# Altium integrated library AMP High-Speed MICTOR.IntLib: 109 symbols (part 5 of 5)
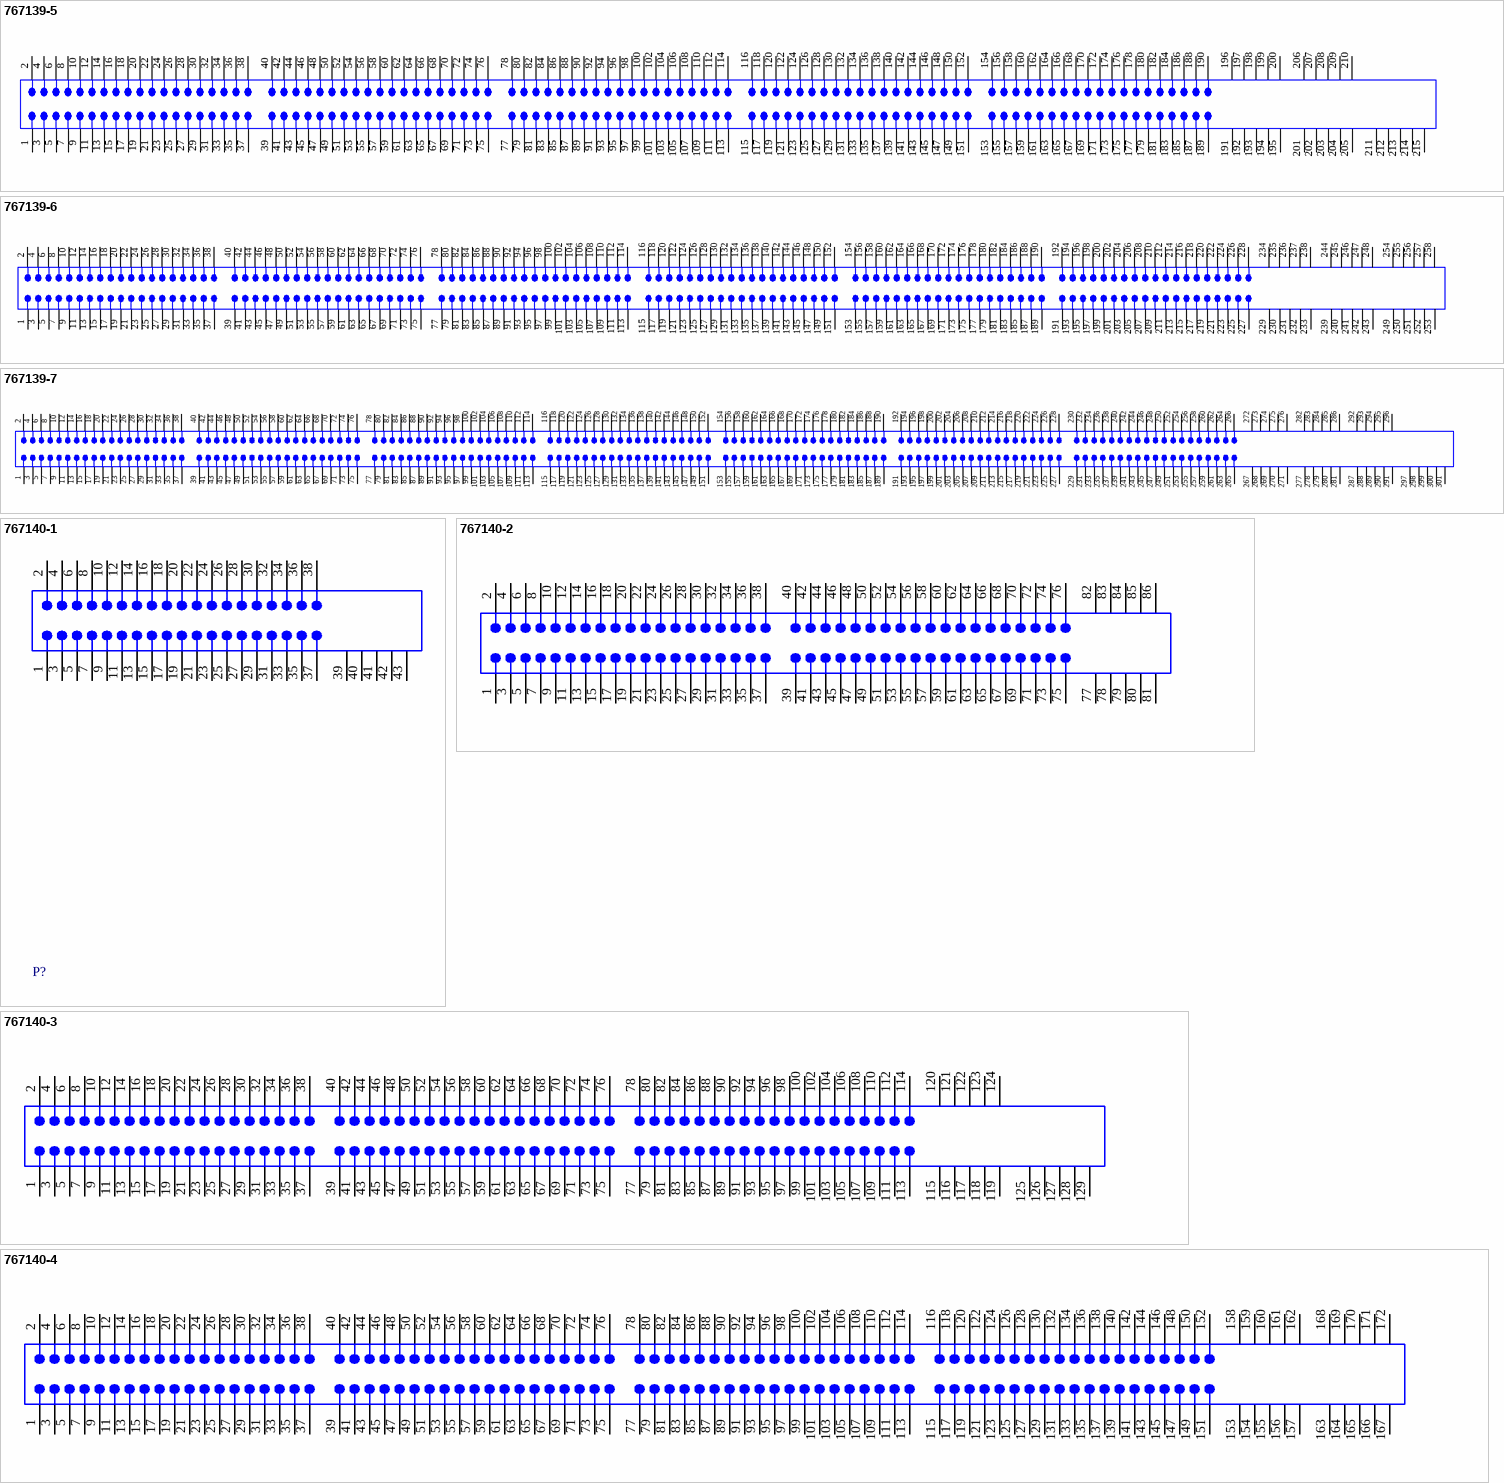
[diagram p19: symbols 767139-5 to 767140-4]

## 767139-6
designator P?
Plug Assembly, .354 [92.92] Vertical, .025 [0.64] CL, Gull Wing Leads, MICTOR; PCB_Layout: Complies with manufacturer's recommendation.; DrillSize: Corresponds to nominal value.; Note: PCB Hold Downs required for connectors of 190 positions and larger (pads 260 & 261). Size & Shape of Hold Downs at customers discretion.; PCB_Layout: Orientation hole size for standard applications, 0.094 Inches (+/-0.002). For slip-fit applications, 0.079 Inches (+/-0.001).; Note: Pins 229-258 are Ground Bus Leads.; Published: 17-Jan-2003; DatasheetDocument: Oct-2002; PackageDocument: Oct-2002; PackageReference: 767139-6; Publisher: Altium Limited; ComponentLink1Description: Manufacturer Link; ComponentLink1URL: http://www.tycoelectronics.com/; ComponentLink2Description: Packaging Specification; ComponentLink2URL: http://ecommas.tycoelectronics.com/commerce/DocumentDelivery/DDEController?Action=showdoc&DocId=Customer+Drawing%7F767139%7FD%7Fpdf%7FEnglish%7FENG_CD_767139_D.pdf
footprint 767139-6 (Connector; High-Speed, Plug; 228 Position; Vertical)
signal-integrity model High-Speed
pins: 1, 2, 3, 4, 5, 6, 7, 8, 9, 10, 11, 12, 13, 14, 15, 16, 17, 18, 19, 20, 21, 22, 23, 24, 25, 26, 27, 28, 29, 30, 31, 32, 33, 34, 35, 36, 37, 38, 39, 40, 41, 42, 43, 44, 45, 46, 47, 48, 49, 50, 51, 52, 53, 54, 55, 56, 57, 58, 59, 60, 61, 62, 63, 64, 65, 66, 67, 68, 69, 70, 71, 72, 73, 74, 75, 76, 77, 78, 79, 80, 81, 82, 83, 84, 85, 86, 87, 88, 89, 90, 91, 92, 93, 94, 95, 96, 97, 98, 99, 100, 101, 102, 103, 104, 105, 106, 107, 108, 109, 110, 111, 112, 113, 114, 115, 116, 117, 118, 119, 120, 121, 122, 123, 124, 125, 126, 127, 128, 129, 130, 131, 132, 133, 134, 135, 136, 137, 138, 139, 140, 141, 142, 143, 144, 145, 146, 147, 148, 149, 150, 151, 152, 153, 154, 155, 156, 157, 158, 159, 160, 161, 162, 163, 164, 165, 166, 167, 168, 169, 170, 171, 172, 173, 174, 175, 176, 177, 178, 179, 180, 181, 182, 183, 184, 185, 186, 187, 188, 189, 190, 191, 192, 193, 194, 195, 196, 197, 198, 199, 200, 201, 202, 203, 204, 205, 206, 207, 208, 209, 210, 211, 212, 213, 214, 215, 216, 217, 218, 219, 220, 221, 222, 223, 224, 225, 226, 227, 228, 229 GND (power), 230 GND (power), 231 GND (power), 232 GND (power), 233 GND (power), 234 GND (power), 235 GND (power), 236 GND (power), 237 GND (power), 238 GND (power), 239 GND (power), 240 GND (power), 241 GND (power), 242 GND (power), 243 GND (power), 244 GND (power), 245 GND (power), 246 GND (power), 247 GND (power), 248 GND (power), 249 GND (power), 250 GND (power), 251 GND (power), 252 GND (power), 253 GND (power), 254 GND (power), 255 GND (power), 256 GND (power), 257 GND (power), 258 GND (power)

## 767139-7
designator P?
Plug Assembly, .354 [92.92] Vertical, .025 [0.64] CL, Gull Wing Leads, MICTOR; PCB_Layout: Complies with manufacturer's recommendation.; DrillSize: Corresponds to nominal value.; Note: PCB Hold Downs required for connectors of 190 positions and larger (pads 303 & 304).; PCB_Layout: Orientation hole size for standard applications, 0.094 Inches (+/-0.002). For slip-fit applications, 0.079 Inches (+/-0.001).; Note: Pins 267-301 are Ground Bus Leads.; Published: 17-Jan-2003; DatasheetDocument: Oct-2002; PackageDocument: Oct-2002; PackageReference: 767139-7; Publisher: Altium Limited; ComponentLink1Description: Manufacturer Link; ComponentLink1URL: http://www.tycoelectronics.com/; ComponentLink2Description: Packaging Specification; ComponentLink2URL: http://ecommas.tycoelectronics.com/commerce/DocumentDelivery/DDEController?Action=showdoc&DocId=Customer+Drawing%7F767139%7FD%7Fpdf%7FEnglish%7FENG_CD_767139_D.pdf
footprint 767139-7 (Connector; High-Speed, Plug; 266 Position; Vertical)
signal-integrity model High-Speed
pins: 1, 2, 3, 4, 5, 6, 7, 8, 9, 10, 11, 12, 13, 14, 15, 16, 17, 18, 19, 20, 21, 22, 23, 24, 25, 26, 27, 28, 29, 30, 31, 32, 33, 34, 35, 36, 37, 38, 39, 40, 41, 42, 43, 44, 45, 46, 47, 48, 49, 50, 51, 52, 53, 54, 55, 56, 57, 58, 59, 60, 61, 62, 63, 64, 65, 66, 67, 68, 69, 70, 71, 72, 73, 74, 75, 76, 77, 78, 79, 80, 81, 82, 83, 84, 85, 86, 87, 88, 89, 90, 91, 92, 93, 94, 95, 96, 97, 98, 99, 100, 101, 102, 103, 104, 105, 106, 107, 108, 109, 110, 111, 112, 113, 114, 115, 116, 117, 118, 119, 120, 121, 122, 123, 124, 125, 126, 127, 128, 129, 130, 131, 132, 133, 134, 135, 136, 137, 138, 139, 140, 141, 142, 143, 144, 145, 146, 147, 148, 149, 150, 151, 152, 153, 154, 155, 156, 157, 158, 159, 160, 161, 162, 163, 164, 165, 166, 167, 168, 169, 170, 171, 172, 173, 174, 175, 176, 177, 178, 179, 180, 181, 182, 183, 184, 185, 186, 187, 188, 189, 190, 191, 192, 193, 194, 195, 196, 197, 198, 199, 200, 201, 202, 203, 204, 205, 206, 207, 208, 209, 210, 211, 212, 213, 214, 215, 216, 217, 218, 219, 220, 221, 222, 223, 224, 225, 226, 227, 228, 229, 230, 231, 232, 233, 234, 235, 236, 237, 238, 239, 240, 241, 242, 243, 244, 245, 246, 247, 248, 249, 250, 251, 252, 253, 254, 255, 256, 257, 258, 259, 260, 261, 262, 263, 264, 265, 266, 267 GND (power), 268 GND (power), 269 GND (power), 270 GND (power), 271 GND (power), 272 GND (power), 273 GND (power), 274 GND (power), 275 GND (power), 276 GND (power), 277 GND (power), 278 GND (power), 279 GND (power), 280 GND (power), 281 GND (power), 282 GND (power), 283 GND (power), 284 GND (power), 285 GND (power), 286 GND (power), 287 GND (power), 288 GND (power), 289 GND (power), 290 GND (power), 291 GND (power), 292 GND (power), 293 GND (power), 294 GND (power), 295 GND (power), 296 GND (power), 297 GND (power), 298 GND (power), 299 GND (power), 300 GND (power), 301 GND (power)

## 767140-1
designator P?
Plug Assembly, .354 [92.92] Vertical, .025 [0.64] CL, Gull Wing Leads, MICTOR; PCB_Layout: Complies with manufacturer's recommendation.; DrillSize: Corresponds to nominal value.; PCB_Layout: Orientation hole size for standard applications, 0.094 Inches (+/-0.002). For slip-fit applications, 0.079 Inches (+/-0.001).; Note: Pins 39-43 are Ground Bus Leads.; ComponentAvailability: Obsolete; Published: 17-Jan-2003; DatasheetDocument: Oct-2002; PackageDocument: Oct-2002; PackageReference: 767140-1; Publisher: Altium Limited; ComponentLink1Description: Manufacturer Link; ComponentLink1URL: http://www.tycoelectronics.com/; ComponentLink2Description: Packaging Specification; ComponentLink2URL: http://ecommas.tycoelectronics.com/commerce/DocumentDelivery/DDEController?Action=showdoc&DocId=Customer+Drawing%7F767140%7FB%7Fpdf%7FEnglish%7FENG_CD_767140_B.pdf
footprint 767140-1 (Connector; High-Speed, Plug; 38 Position; Vertical)
signal-integrity model High-Speed
pins: 1, 2, 3, 4, 5, 6, 7, 8, 9, 10, 11, 12, 13, 14, 15, 16, 17, 18, 19, 20, 21, 22, 23, 24, 25, 26, 27, 28, 29, 30, 31, 32, 33, 34, 35, 36, 37, 38, 39 GND (power), 40 GND (power), 41 GND (power), 42 GND (power), 43 GND (power)

## 767140-2
designator P?
Plug Assembly, .354 [92.92] Vertical, .025 [0.64] CL, Gull Wing Leads, MICTOR; PCB_Layout: Complies with manufacturer's recommendation.; DrillSize: Corresponds to nominal value.; PCB_Layout: Orientation hole size for standard applications, 0.094 Inches (+/-0.002). For slip-fit applications, 0.079 Inches (+/-0.001).; Note: Pins 77-86 are Ground Bus Leads.; ComponentAvailability: Obsolete; Published: 17-Jan-2003; DatasheetDocument: Sep-2002; PackageDocument: Sep-2002; PackageReference: 767140-2; Publisher: Altium Limited; ComponentLink1Description: Manufacturer Link; ComponentLink1URL: http://www.tycoelectronics.com/; ComponentLink2Description: Packaging Specification; ComponentLink2URL: http://ecommas.tycoelectronics.com/commerce/DocumentDelivery/DDEController?Action=showdoc&DocId=Customer+Drawing%7F767140%7FB%7Fpdf%7FEnglish%7FENG_CD_767140_B.pdf
footprint 767140-2 (Connector; High-Speed, Plug; 76 Position; Vertical)
signal-integrity model High-Speed
pins: 1, 2, 3, 4, 5, 6, 7, 8, 9, 10, 11, 12, 13, 14, 15, 16, 17, 18, 19, 20, 21, 22, 23, 24, 25, 26, 27, 28, 29, 30, 31, 32, 33, 34, 35, 36, 37, 38, 39, 40, 41, 42, 43, 44, 45, 46, 47, 48, 49, 50, 51, 52, 53, 54, 55, 56, 57, 58, 59, 60, 61, 62, 63, 64, 65, 66, 67, 68, 69, 70, 71, 72, 73, 74, 75, 76, 77 GND (power), 78 GND (power), 79 GND (power), 80 GND (power), 81 GND (power), 82 GND (power), 83 GND (power), 84 GND (power), 85 GND (power), 86 GND (power)

## 767140-3
designator P?
Plug Assembly, .354 [92.92] Vertical, .025 [0.64] CL, Gull Wing Leads, MICTOR; PCB_Layout: Complies with manufacturer's recommendation.; DrillSize: Corresponds to nominal value.; PCB_Layout: Orientation hole size for standard applications, 0.094 Inches (+/-0.002). For slip-fit applications, 0.079 Inches (+/-0.001).; Note: Pins 115-129 are Ground Bus Leads.; ComponentAvailability: Obsolete; Published: 17-Jan-2003; DatasheetDocument: Oct-2002; PackageDocument: Oct-2002; PackageReference: 767140-3; Publisher: Altium Limited; ComponentLink1Description: Manufacturer Link; ComponentLink1URL: http://www.tycoelectronics.com/; ComponentLink2Description: Packaging Specification; ComponentLink2URL: http://ecommas.tycoelectronics.com/commerce/DocumentDelivery/DDEController?Action=showdoc&DocId=Customer+Drawing%7F767140%7FB%7Fpdf%7FEnglish%7FENG_CD_767140_B.pdf
footprint 767140-3 (Connector; High-Speed, Plug; 114 Position; Vertical)
signal-integrity model High-Speed
pins: 1, 2, 3, 4, 5, 6, 7, 8, 9, 10, 11, 12, 13, 14, 15, 16, 17, 18, 19, 20, 21, 22, 23, 24, 25, 26, 27, 28, 29, 30, 31, 32, 33, 34, 35, 36, 37, 38, 39, 40, 41, 42, 43, 44, 45, 46, 47, 48, 49, 50, 51, 52, 53, 54, 55, 56, 57, 58, 59, 60, 61, 62, 63, 64, 65, 66, 67, 68, 69, 70, 71, 72, 73, 74, 75, 76, 77, 78, 79, 80, 81, 82, 83, 84, 85, 86, 87, 88, 89, 90, 91, 92, 93, 94, 95, 96, 97, 98, 99, 100, 101, 102, 103, 104, 105, 106, 107, 108, 109, 110, 111, 112, 113, 114, 115 GND (power), 116 GND (power), 117 GND (power), 118 GND (power), 119 GND (power), 120 GND (power), 121 GND (power), 122 GND (power), 123 GND (power), 124 GND (power), 125 GND (power), 126 GND (power), 127 GND (power), 128 GND (power), 129 GND (power)

## 767140-4
designator P?
Plug Assembly, .354 [92.92] Vertical, .025 [0.64] CL, Gull Wing Leads, MICTOR; PCB_Layout: Complies with manufacturer's recommendation.; DrillSize: Corresponds to nominal value.; PCB_Layout: Orientation hole size for standard applications, 0.094 Inches (+/-0.002). For slip-fit applications, 0.079 Inches (+/-0.001).; Note: Pins 153-172 are Ground Bus Leads.; ComponentAvailability: Obsolete; Published: 17-Jan-2003; DatasheetDocument: Sep-2002; PackageDocument: Sep-2002; PackageReference: 767140-4; Publisher: Altium Limited; ComponentLink1Description: Manufacturer Link; ComponentLink1URL: http://www.tycoelectronics.com/; ComponentLink2Description: Packaging Specification; ComponentLink2URL: http://ecommas.tycoelectronics.com/commerce/DocumentDelivery/DDEController?Action=showdoc&DocId=Customer+Drawing%7F767140%7FB%7Fpdf%7FEnglish%7FENG_CD_767140_B.pdf
footprint 767140-4 (Connector; High-Speed, Plug; 152 Position; Vertical)
signal-integrity model High-Speed
pins: 1, 2, 3, 4, 5, 6, 7, 8, 9, 10, 11, 12, 13, 14, 15, 16, 17, 18, 19, 20, 21, 22, 23, 24, 25, 26, 27, 28, 29, 30, 31, 32, 33, 34, 35, 36, 37, 38, 39, 40, 41, 42, 43, 44, 45, 46, 47, 48, 49, 50, 51, 52, 53, 54, 55, 56, 57, 58, 59, 60, 61, 62, 63, 64, 65, 66, 67, 68, 69, 70, 71, 72, 73, 74, 75, 76, 77, 78, 79, 80, 81, 82, 83, 84, 85, 86, 87, 88, 89, 90, 91, 92, 93, 94, 95, 96, 97, 98, 99, 100, 101, 102, 103, 104, 105, 106, 107, 108, 109, 110, 111, 112, 113, 114, 115, 116, 117, 118, 119, 120, 121, 122, 123, 124, 125, 126, 127, 128, 129, 130, 131, 132, 133, 134, 135, 136, 137, 138, 139, 140, 141, 142, 143, 144, 145, 146, 147, 148, 149, 150, 151, 152, 153 GND (power), 154 GND (power), 155 GND (power), 156 GND (power), 157 GND (power), 158 GND (power), 159 GND (power), 160 GND (power), 161 GND (power), 162 GND (power), 163 GND (power), 164 GND (power), 165 GND (power), 166 GND (power), 167 GND (power), 168 GND (power), 169 GND (power), 170 GND (power), 171 GND (power), 172 GND (power)

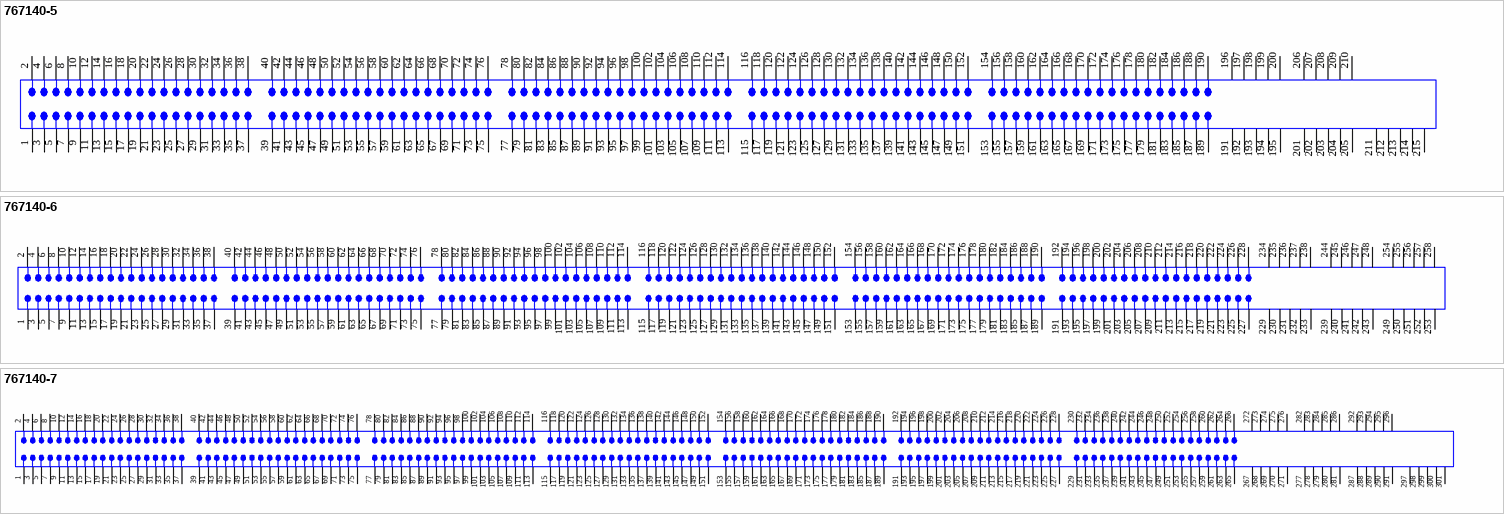
[diagram p15: symbols 767140-5 to 767140-7]

## 767140-5
designator P?
Plug Assembly, .354 [92.92] Vertical, .025 [0.64] CL, Gull Wing Leads, MICTOR; PCB_Layout: Complies with manufacturer's recommendation.; DrillSize: Corresponds to nominal value.; Note: PCB Hold Downs required for connectors of 190 positions and larger (pads 217 & 218).; PCB_Layout: Orientation hole size for standard applications, 0.094 Inches (+/-0.002). For slip-fit applications, 0.079 Inches (+/-0.001).; Note: Pins 191-215 are Ground Bus Leads.; ComponentAvailability: Obsolete; Published: 17-Jan-2003; DatasheetDocument: Oct-2002; PackageDocument: Oct-2002; PackageReference: 767140-5; Publisher: Altium Limited; ComponentLink1Description: Manufacturer Link; ComponentLink1URL: http://www.tycoelectronics.com/; ComponentLink2Description: Packaging Specification; ComponentLink2URL: http://ecommas.tycoelectronics.com/commerce/DocumentDelivery/DDEController?Action=showdoc&DocId=Customer+Drawing%7F767140%7FB%7Fpdf%7FEnglish%7FENG_CD_767140_B.pdf
footprint 767140-5 (Connector; High-Speed, Plug; 190 Position; Vertical)
signal-integrity model High-Speed
pins: 1, 2, 3, 4, 5, 6, 7, 8, 9, 10, 11, 12, 13, 14, 15, 16, 17, 18, 19, 20, 21, 22, 23, 24, 25, 26, 27, 28, 29, 30, 31, 32, 33, 34, 35, 36, 37, 38, 39, 40, 41, 42, 43, 44, 45, 46, 47, 48, 49, 50, 51, 52, 53, 54, 55, 56, 57, 58, 59, 60, 61, 62, 63, 64, 65, 66, 67, 68, 69, 70, 71, 72, 73, 74, 75, 76, 77, 78, 79, 80, 81, 82, 83, 84, 85, 86, 87, 88, 89, 90, 91, 92, 93, 94, 95, 96, 97, 98, 99, 100, 101, 102, 103, 104, 105, 106, 107, 108, 109, 110, 111, 112, 113, 114, 115, 116, 117, 118, 119, 120, 121, 122, 123, 124, 125, 126, 127, 128, 129, 130, 131, 132, 133, 134, 135, 136, 137, 138, 139, 140, 141, 142, 143, 144, 145, 146, 147, 148, 149, 150, 151, 152, 153, 154, 155, 156, 157, 158, 159, 160, 161, 162, 163, 164, 165, 166, 167, 168, 169, 170, 171, 172, 173, 174, 175, 176, 177, 178, 179, 180, 181, 182, 183, 184, 185, 186, 187, 188, 189, 190, 191 GND (power), 192 GND (power), 193 GND (power), 194 GND (power), 195 GND (power), 196 GND (power), 197 GND (power), 198 GND (power), 199 GND (power), 200 GND (power), 201 GND (power), 202 GND (power), 203 GND (power), 204 GND (power), 205 GND (power), 206 GND (power), 207 GND (power), 208 GND (power), 209 GND (power), 210 GND (power), 211 GND (power), 212 GND (power), 213 GND (power), 214 GND (power), 215 GND (power)

## 767140-6
designator P?
Plug Assembly, .354 [92.92] Vertical, .025 [0.64] CL, Gull Wing Leads, MICTOR; PCB_Layout: Complies with manufacturer's recommendation.; DrillSize: Corresponds to nominal value.; Note: PCB Hold Downs required for connectors of 190 positions and larger (pads 260 & 261). Size & Shape of Hold Downs at customers discretion.; PCB_Layout: Orientation hole size for standard applications, 0.094 Inches (+/-0.002). For slip-fit applications, 0.079 Inches (+/-0.001).; Note: Pins 229-258 are Ground Bus Leads.; ComponentAvailability: Obsolete; Published: 17-Jan-2003; DatasheetDocument: Oct-2002; PackageDocument: Oct-2002; PackageReference: 767140-6; Publisher: Altium Limited; ComponentLink1Description: Manufacturer Link; ComponentLink1URL: http://www.tycoelectronics.com/; ComponentLink2Description: Packaging Specification; ComponentLink2URL: http://ecommas.tycoelectronics.com/commerce/DocumentDelivery/DDEController?Action=showdoc&DocId=Customer+Drawing%7F767140%7FB%7Fpdf%7FEnglish%7FENG_CD_767140_B.pdf
footprint 767140-6 (Connector; High-Speed, Plug; 228 Position; Vertical)
signal-integrity model High-Speed
pins: 1, 2, 3, 4, 5, 6, 7, 8, 9, 10, 11, 12, 13, 14, 15, 16, 17, 18, 19, 20, 21, 22, 23, 24, 25, 26, 27, 28, 29, 30, 31, 32, 33, 34, 35, 36, 37, 38, 39, 40, 41, 42, 43, 44, 45, 46, 47, 48, 49, 50, 51, 52, 53, 54, 55, 56, 57, 58, 59, 60, 61, 62, 63, 64, 65, 66, 67, 68, 69, 70, 71, 72, 73, 74, 75, 76, 77, 78, 79, 80, 81, 82, 83, 84, 85, 86, 87, 88, 89, 90, 91, 92, 93, 94, 95, 96, 97, 98, 99, 100, 101, 102, 103, 104, 105, 106, 107, 108, 109, 110, 111, 112, 113, 114, 115, 116, 117, 118, 119, 120, 121, 122, 123, 124, 125, 126, 127, 128, 129, 130, 131, 132, 133, 134, 135, 136, 137, 138, 139, 140, 141, 142, 143, 144, 145, 146, 147, 148, 149, 150, 151, 152, 153, 154, 155, 156, 157, 158, 159, 160, 161, 162, 163, 164, 165, 166, 167, 168, 169, 170, 171, 172, 173, 174, 175, 176, 177, 178, 179, 180, 181, 182, 183, 184, 185, 186, 187, 188, 189, 190, 191, 192, 193, 194, 195, 196, 197, 198, 199, 200, 201, 202, 203, 204, 205, 206, 207, 208, 209, 210, 211, 212, 213, 214, 215, 216, 217, 218, 219, 220, 221, 222, 223, 224, 225, 226, 227, 228, 229 GND (power), 230 GND (power), 231 GND (power), 232 GND (power), 233 GND (power), 234 GND (power), 235 GND (power), 236 GND (power), 237 GND (power), 238 GND (power), 239 GND (power), 240 GND (power), 241 GND (power), 242 GND (power), 243 GND (power), 244 GND (power), 245 GND (power), 246 GND (power), 247 GND (power), 248 GND (power), 249 GND (power), 250 GND (power), 251 GND (power), 252 GND (power), 253 GND (power), 254 GND (power), 255 GND (power), 256 GND (power), 257 GND (power), 258 GND (power)

## 767140-7
designator P?
Plug Assembly, .354 [92.92] Vertical, .025 [0.64] CL, Gull Wing Leads, MICTOR; PCB_Layout: Complies with manufacturer's recommendation.; DrillSize: Corresponds to nominal value.; Note: PCB Hold Downs required for connectors of 190 positions and larger (pads 303 & 304).; PCB_Layout: Orientation hole size for standard applications, 0.094 Inches (+/-0.002). For slip-fit applications, 0.079 Inches (+/-0.001).; Note: Pins 267-301 are Ground Bus Leads.; ComponentAvailability: Obsolete; Published: 17-Jan-2003; DatasheetDocument: Oct-2002; PackageDocument: Oct-2002; PackageReference: 767140-7; Publisher: Altium Limited; ComponentLink1Description: Manufacturer Link; ComponentLink1URL: http://www.tycoelectronics.com/; ComponentLink2Description: Packaging Specification; ComponentLink2URL: http://ecommas.tycoelectronics.com/commerce/DocumentDelivery/DDEController?Action=showdoc&DocId=Customer+Drawing%7F767140%7FB%7Fpdf%7FEnglish%7FENG_CD_767140_B.pdf
footprint 767140-7 (Connector; High-Speed, Plug; 266 Position; Vertical)
signal-integrity model High-Speed
pins: 1, 2, 3, 4, 5, 6, 7, 8, 9, 10, 11, 12, 13, 14, 15, 16, 17, 18, 19, 20, 21, 22, 23, 24, 25, 26, 27, 28, 29, 30, 31, 32, 33, 34, 35, 36, 37, 38, 39, 40, 41, 42, 43, 44, 45, 46, 47, 48, 49, 50, 51, 52, 53, 54, 55, 56, 57, 58, 59, 60, 61, 62, 63, 64, 65, 66, 67, 68, 69, 70, 71, 72, 73, 74, 75, 76, 77, 78, 79, 80, 81, 82, 83, 84, 85, 86, 87, 88, 89, 90, 91, 92, 93, 94, 95, 96, 97, 98, 99, 100, 101, 102, 103, 104, 105, 106, 107, 108, 109, 110, 111, 112, 113, 114, 115, 116, 117, 118, 119, 120, 121, 122, 123, 124, 125, 126, 127, 128, 129, 130, 131, 132, 133, 134, 135, 136, 137, 138, 139, 140, 141, 142, 143, 144, 145, 146, 147, 148, 149, 150, 151, 152, 153, 154, 155, 156, 157, 158, 159, 160, 161, 162, 163, 164, 165, 166, 167, 168, 169, 170, 171, 172, 173, 174, 175, 176, 177, 178, 179, 180, 181, 182, 183, 184, 185, 186, 187, 188, 189, 190, 191, 192, 193, 194, 195, 196, 197, 198, 199, 200, 201, 202, 203, 204, 205, 206, 207, 208, 209, 210, 211, 212, 213, 214, 215, 216, 217, 218, 219, 220, 221, 222, 223, 224, 225, 226, 227, 228, 229, 230, 231, 232, 233, 234, 235, 236, 237, 238, 239, 240, 241, 242, 243, 244, 245, 246, 247, 248, 249, 250, 251, 252, 253, 254, 255, 256, 257, 258, 259, 260, 261, 262, 263, 264, 265, 266, 267 GND (power), 268 GND (power), 269 GND (power), 270 GND (power), 271 GND (power), 272 GND (power), 273 GND (power), 274 GND (power), 275 GND (power), 276 GND (power), 277 GND (power), 278 GND (power), 279 GND (power), 280 GND (power), 281 GND (power), 282 GND (power), 283 GND (power), 284 GND (power), 285 GND (power), 286 GND (power), 287 GND (power), 288 GND (power), 289 GND (power), 290 GND (power), 291 GND (power), 292 GND (power), 293 GND (power), 294 GND (power), 295 GND (power), 296 GND (power), 297 GND (power), 298 GND (power), 299 GND (power), 300 GND (power), 301 GND (power)